# Altium footprint library SODFL3518X115N.PcbLib: 1 footprints
Each footprint in its own frame and in the unit in brackets; x right, y up, seen from the top. Pads: shape width x height; smd on the part's side, far side on the other; paste and mask are expansions set on the pad; w line width, h text height; cw(c..) or ccw(c..) is an arc to the next point about the centre after c.
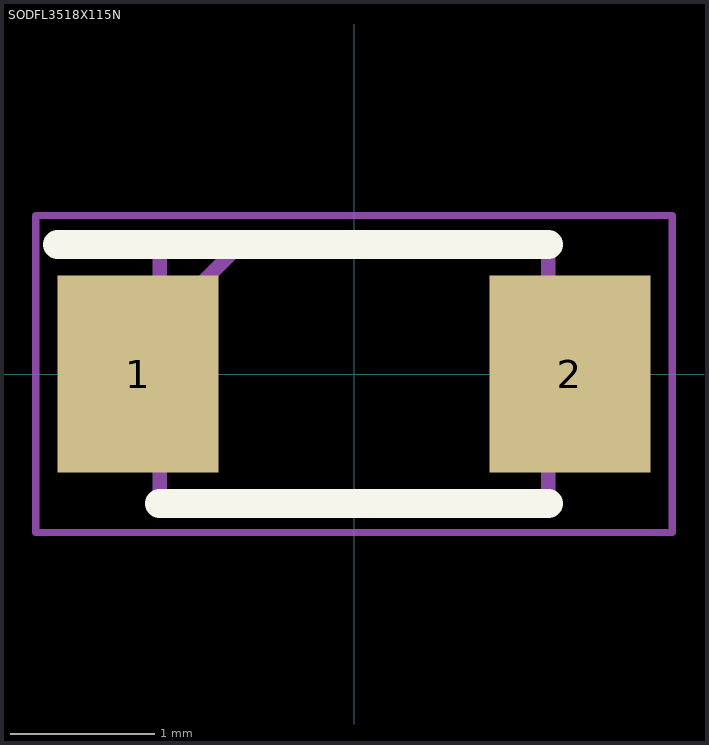
[diagram p0: the footprint, top view; thin cyan lines are the x and y axes]

## SODFL3518X115N [mm]
pads (2):
  rect 1.12x1.37 smd: 1(-1.5,0) 2(1.5,0)
Top Overlay:
  lines w0.2: -2.06,0.9 1.35,0.9 ; -1.35,-0.9 1.35,-0.9
Mechanical 15:
  lines w0.1: -1.35,0.34 -0.79,0.9 ; -1.35,-0.9 1.35,-0.9 1.35,0.9 -1.35,0.9 -1.35,-0.9
Mechanical 20:
  lines w0.05: -2.21,-1.1 2.21,-1.1 2.21,1.1 -2.21,1.1 -2.21,-1.1